# EAGLE library part JOYSTICK (library Module)
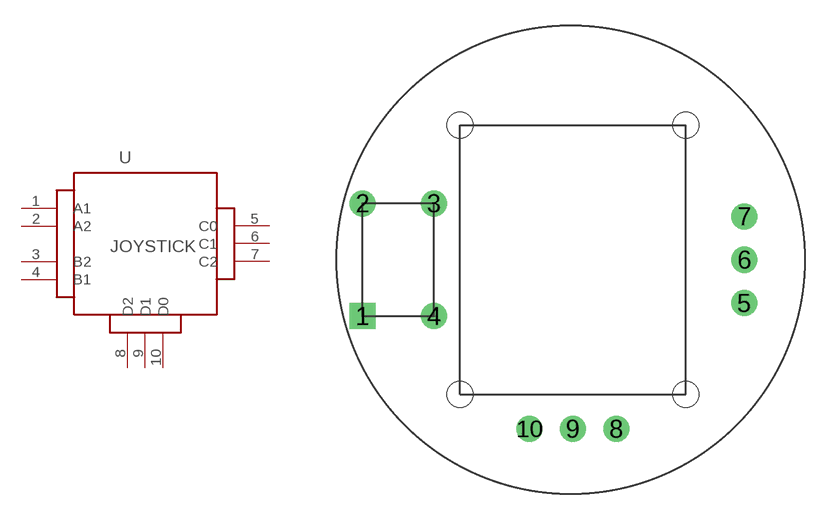
[diagram p22: symbol with the pads of 10P-54.8MM; footprint 10P-54.8MM]

Designator prefix U

## JOYSTICK  [10P-54.8MM]
1  A1
2  A2
3  B2
4  B1
5  C0
6  C1
7  C2
8  D2
9  D1
10  D0

## Footprint 10P-54.8MM (pad centres in mm)
drill 1 pad 1.524 square: 1 -12.325,-3.302
drill 1 pad 1.524 round: 2 -12.325,3.302; 3 -8.128,3.302; 4 -8.128,-3.302
drill 0.813 pad 1.524 round: 5 10.033,-2.54; 6 10.033,0; 7 10.033,2.54; 8 2.54,-9.906; 9 0,-9.906; 10 -2.54,-9.906